# EAGLE library part AMPHENOL_MICROUSB (library sharkdunio)
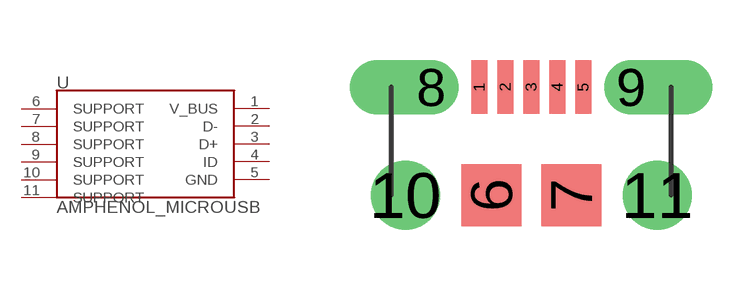
[diagram p5: symbol with the pads of AMPHENOL_MICROUSB; footprint AMPHENOL_MICROUSB]

Designator prefix -

## AMPHENOL_MICROUSB  [AMPHENOL_MICROUSB]
1  V_BUS
2  D-
3  D+
4  ID
5  GND
6  SUPPORT
7  SUPPORT
8  SUPPORT
9  SUPPORT
10  SUPPORT
11  SUPPORT

## Footprint AMPHENOL_MICROUSB (pad centres in mm)
smd 0.4 x 1.35: 1 -1.3,2.7; 2 -0.65,2.7; 3 0,2.7; 4 0.65,2.7; 5 1.3,2.7
smd 1.5 x 1.55: 6 -1,0; 7 1,0
drill 0.85 pad 1.25 offset: 8 -2.5,2.7; 9 2.5,2.7
drill 1.15 pad 1.55: 10 -3.15,0; 11 3.15,0